# EAGLE library part STN1110 (library personal)
16-bit Microcontrollers
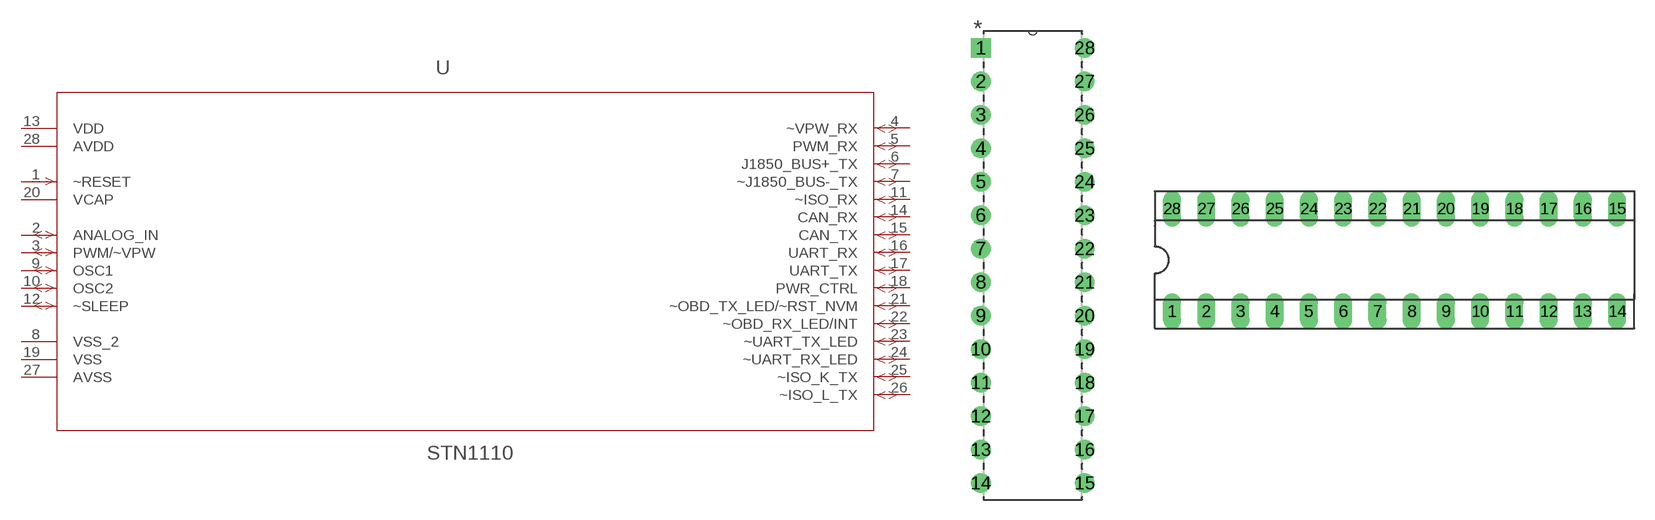
[diagram p1: symbol with the pads of DIP-28; footprints DIP-28, SOCKET-28-3]

Designator prefix -

## STN1110DIP-28 (DESCRIPTION: 16-bit Microcontrollers; MPN: PIC24HJ128GP502-I/SP; OC_FARNELL: 1576881; OC_NEWARK: 40M1489; PACKAGE: DIP-28; SUPPLIER: Microchip)  [DIP-28]
1  ~RESET  in
2  ANALOG_IN
3  PWM/~VPW
4  ~VPW_RX
5  PWM_RX
6  J1850_BUS+_TX
7  ~J1850_BUS-_TX
8  VSS_2  pwr
9  OSC1
10  OSC2
11  ~ISO_RX
12  ~SLEEP
13  VDD  pwr
14  CAN_RX
15  CAN_TX
16  UART_RX
17  UART_TX
18  PWR_CTRL
19  VSS  pwr
20  VCAP  pwr
21  ~OBD_TX_LED/~RST_NVM
22  ~OBD_RX_LED/INT
23  ~UART_TX_LED
24  ~UART_RX_LED
25  ~ISO_K_TX
26  ~ISO_L_TX
27  AVSS  pwr
28  AVDD  pwr

## STN1110SOCKET-28  [SOCKET-28-3]
Pads as for DIP-28

## Footprint DIP-28 (pad centres in mm)
drill 0.991 square: 1 -7.874,33.02
drill 0.991: 2 -7.874,30.48; 3 -7.874,27.94; 4 -7.874,25.4; 5 -7.874,22.86; 6 -7.874,20.32; 7 -7.874,17.78; 8 -7.874,15.24; 9 -7.874,12.7; 10 -7.874,10.16; 11 -7.874,7.62; 12 -7.874,5.08; 13 -7.874,2.54; 14 -7.874,0; 15 0,0; 16 0,2.54; 17 0,5.08; 18 0,7.62; 19 0,10.16; 20 0,12.7; 21 0,15.24; 22 0,17.78; 23 0,20.32; 24 0,22.86; 25 0,25.4; 26 0,27.94; 27 0,30.48; 28 0,33.02

## Footprint SOCKET-28-3 (pad centres in mm)
Dual In Line Socket Small
drill 0.813 long: 1 -16.51,-3.81; 2 -13.97,-3.81; 3 -11.43,-3.81; 4 -8.89,-3.81; 5 -6.35,-3.81; 6 -3.81,-3.81; 7 -1.27,-3.81; 8 1.27,-3.81; 9 3.81,-3.81; 10 6.35,-3.81; 11 8.89,-3.81; 12 11.43,-3.81; 13 13.97,-3.81; 14 16.51,-3.81; 15 16.51,3.81; 16 13.97,3.81; 17 11.43,3.81; 18 8.89,3.81; 19 6.35,3.81; 20 3.81,3.81; 21 1.27,3.81; 22 -1.27,3.81; 23 -3.81,3.81; 24 -6.35,3.81; 25 -8.89,3.81; 26 -11.43,3.81; 27 -13.97,3.81; 28 -16.51,3.81